# Altium schematic symbol library FAN1086.SchLib: 1 symbol
Pins are listed as number, name and electrical type; pins without a type are passive.

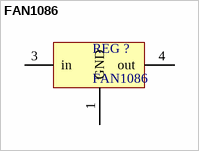
[diagram p0: symbol FAN1086]

## FAN1086
designator REG ?
1.5A, 3.3V Fixed Low Dropout Linear Regulator
pins: 1 GND, 3 in, 4 out